# Altium schematic symbol library jlcpcb_OPTO_basic.schlib: 1 symbol
Pins are listed as number, name and electrical type; pins without a type are passive.

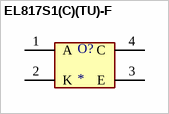
[diagram p0: symbol EL817S1(C)(TU)-F]

## EL817S1(C)(TU)-F
designator O?
35V 5000V 50mA 0.1V@1mA,20mA 1 6V 1.2V DC SMD-4P Optocouplers - Phototransistor Output ROHS; Manufacturer Part Number: EL817S1(C)(TU)-F; JLCPCB Part Number: C106900
footprint SOP254P
pins: 1 A, 2 K, 3 E, 4 C